# EAGLE library part DIFFERENTIAL-LINE-DRIVER (library mullac)
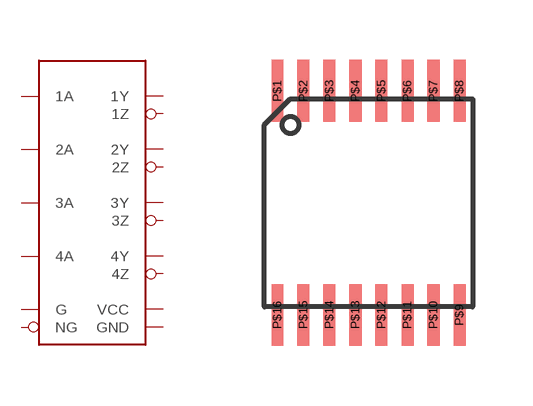
[diagram p14: symbol with the pads of TSSOP-16; footprint TSSOP-16]

Designator prefix -

## DIFFERENTIAL-LINE-DRIVERTSSOP-16  [TSSOP-16]
P$1  1A
P$2  1Y
P$3  1Z
P$4  G
P$5  2Z
P$6  2Y
P$7  2A
P$8  GND
P$9  3A
P$10  3Y
P$11  3Z
P$12  NG
P$13  4Z
P$14  4Y
P$15  4A
P$16  VCC

## Footprint TSSOP-16 (pad centres in mm)
smd 0.3 x 1.55: P$1 -2.275,2.8; P$2 -1.625,2.8; P$3 -0.975,2.8; P$4 -0.325,2.8; P$5 0.325,2.8; P$6 0.975,2.8; P$7 1.625,2.8; P$8 2.275,2.8; P$9 2.275,-2.8; P$10 1.625,-2.8; P$11 0.975,-2.8; P$12 0.325,-2.8; P$13 -0.325,-2.8; P$14 -0.975,-2.8; P$15 -1.625,-2.8; P$16 -2.275,-2.8